# EAGLE library part CON03X2Q (library Stecker_Pins)
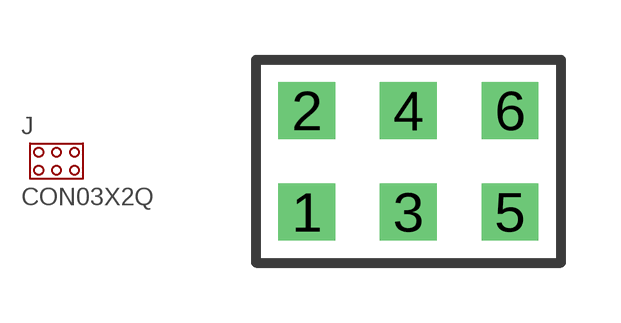
[diagram p1: symbol with the pads of CON03X2Q; footprint CON03X2Q]

Designator prefix J

## CON03X2Q  [CON03X2Q]
1  1  in
2  2  in
3  3  in
4  4  in
5  5  in
6  6  in

## Footprint CON03X2Q (pad centres in mm)
drill 0.8 pad 1.422 square: 1 0,0; 2 0,2.54; 3 2.54,0; 4 2.54,2.54; 5 5.08,0; 6 5.08,2.54